# EAGLE library part THS4032CDGN (library IC_Linear)
100-MHz Low-Noise High-Speed Amplifiers Datasheet <http://www.ti.com/lit/ds/symlink/ths4032.pdf>
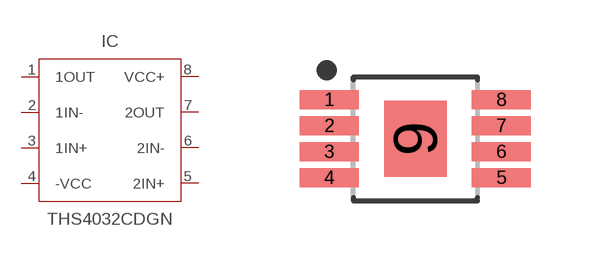
[diagram p18: symbol with the pads of SOP65P490X110-9T157X189N; footprint SOP65P490X110-9T157X189N]

Designator prefix IC

## THS4032CDGN_PDSO (CATEGORY: Operational Amplifiers; DESCRIPTION: value; MANUFACTURER: TI; MPN: THS4032CDGN; OPERATING_TEMP: 0 to +70 °C; PART_STATUS: Active; ROHS_COMPLIANT: RoHS3 Compliant; SERIES: THS4032; SUB-CATEGORY: Op-Amp; VALUE: THS4032)  [SOP65P490X110-9T157X189N]
1  1OUT  out
2  1IN-  in
3  1IN+  in
4  -VCC  pwr
5  2IN+  in
6  2IN-  in
7  2OUT  out
8  VCC+  pwr

## Footprint SOP65P490X110-9T157X189N (pad centres in mm)
8-SOP, 0.65 mm pitch, 4.90 mm span, 3.00 X 3.00 X 1.10 mm body, 1.89 X 1.57 mm thermal pad 8-pin SOP package with 0.65 mm pitch, 4.90 mm span with body size 3.00 X 3.00 X 1.10 mm and thermal pad size 1.89 X 1.57 mm
smd 1.471 x 0.481: 1 -2.15,0.975; 2 -2.15,0.325; 3 -2.15,-0.325; 4 -2.15,-0.975; 5 2.15,-0.975; 6 2.15,-0.325; 7 2.15,0.325; 8 2.15,0.975
smd 1.57 x 1.89: 9 0,0